# Altium footprint library 796949-7.PcbLib: 1 footprints
Each footprint in its own frame and in the unit in brackets; x right, y up, seen from the top. Pads: shape width x height; smd on the part's side, far side on the other; paste and mask are expansions set on the pad; w line width, h text height; cw(c..) or ccw(c..) is an arc to the next point about the centre after c.
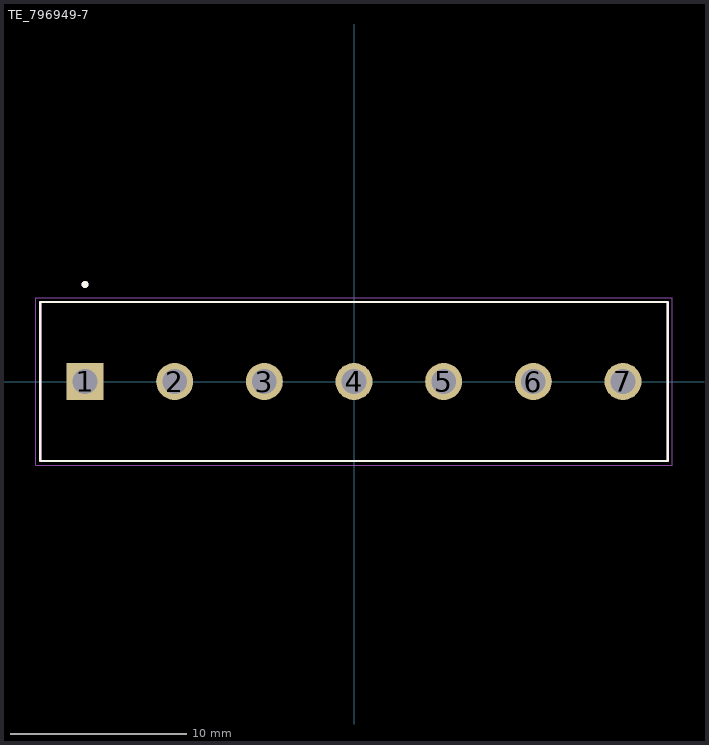
[diagram p0: the footprint, top view; thin cyan lines are the x and y axes]

## TE_796949-7 [mm]
pads (7):
  rect 2.1x2.1 hole 1.4: 1(-15.24,0)
  round 2.1 hole 1.4: 2(-10.16,0) 3(-5.08,0) 4(0,0) 5(5.08,0) 6(10.16,0) 7(15.24,0)
Top Overlay:
  circle w0.2: c-15.24,5.5 r0.1
  lines w0.127: -17.78,-4.5 17.78,-4.5 17.78,4.5 -17.78,4.5 -17.78,-4.5
Mechanical 13:
  circle w0.2: c-15.24,5.5 r0.1
  lines w0.127: -17.78,-4.5 17.78,-4.5 17.78,4.5 -17.78,4.5 -17.78,-4.5
Mechanical 15:
  lines w0.05: -18.03,-4.75 18.03,-4.75 18.03,4.75 -18.03,4.75 -18.03,-4.75
3D body "step_temp.STEP": height 4.95, standoff -4.05, extent -17.78,0 18.28,18.7